# Altium footprint library Inductor_SMD.PcbLib: 587 footprints (part 19 of 37)
Each footprint in its own frame and in the unit in brackets; x right, y up, seen from the top. Pads: shape width x height; smd on the part's side, far side on the other; paste and mask are expansions set on the pad; w line width, h text height; cw(c..) or ccw(c..) is an arc to the next point about the centre after c.
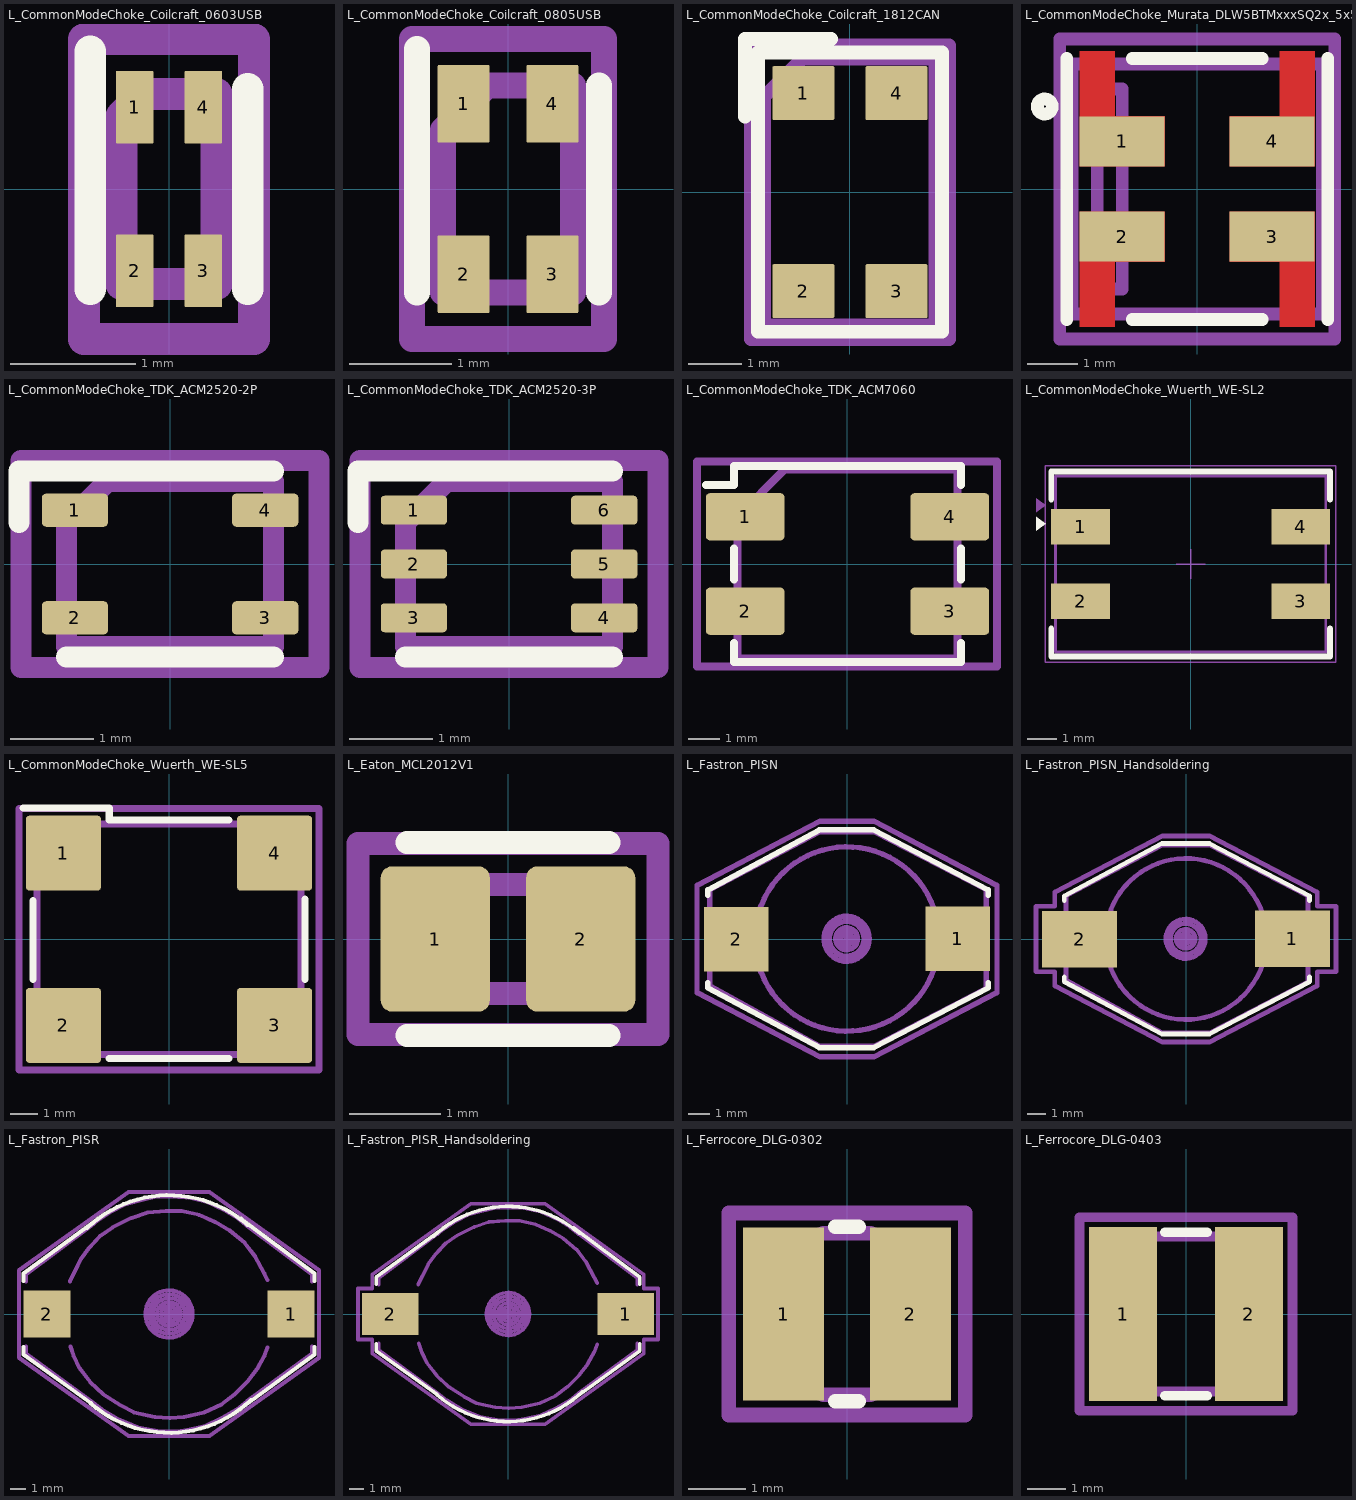
[diagram p18: the footprints below, top view; thin cyan lines are the x and y axes]

## L_CommonModeChoke_Coilcraft_0603USB [mm] "L_CommonModeChoke_Coilcraft_0603USB"
pads (4):
  rrect5% 0.3x0.58 smd: 1(-0.275,0.655) 2(-0.275,-0.655) 3(0.275,-0.655) 4(0.275,0.655)
F.SilkS:
  lines w0.254: -0.63,-0.8 -0.63,1.1 ; 0.63,-0.8 0.63,0.8
Top Assembly:
  lines w0.254: -0.38,-0.76 -0.38,0.58 -0.2,0.76 0.38,0.76 0.38,-0.76 -0.38,-0.76
  text "'.Designator'" at 0.42,-2.023 h0.5
Top Courtyard:
  lines w0.254: -0.68,-1.2 -0.68,1.2 0.68,1.2 0.68,-1.2 -0.68,-1.2
Top Designator:
  text ".Designator" at -7.618,-0.583 h1.52

## L_CommonModeChoke_Coilcraft_0805USB [mm] "L_CommonModeChoke_Coilcraft_0805USB"
pads (4):
  rrect5% 0.51x0.76 smd: 1(-0.435,0.835) 2(-0.435,-0.835) 3(0.435,-0.835) 4(0.435,0.835)
F.SilkS:
  lines w0.254: -0.89,-1.015 -0.89,1.37 ; 0.89,-1.015 0.89,1.015
Top Assembly:
  lines w0.254: -0.635,-1.015 -0.635,0.58 -0.205,1.015 0.635,1.015 0.635,-1.015 -0.635,-1.015
  text "'.Designator'" at 0.42,-2.023 h0.5
Top Courtyard:
  lines w0.254: -0.94,-1.47 -0.94,1.47 0.94,1.47 0.94,-1.47 -0.94,-1.47
Top Designator:
  text ".Designator" at -7.618,-0.583 h1.52

## L_CommonModeChoke_Coilcraft_1812CAN [mm] "L_CommonModeChoke_Coilcraft_1812CAN"
pads (4):
  rrect5% 1.15x1 smd: 1(-0.865,1.84) 2(-0.865,-1.84) 3(0.865,-1.84) 4(0.865,1.84)
F.SilkS:
  lines w0.254: -1.95,1.4 -1.95,2.845 -0.35,2.845 ; -1.71,-2.595 1.71,-2.595 1.71,2.595 -1.71,2.595 -1.71,-2.595
Top Assembly:
  lines w0.254: -1.59,-2.475 1.59,-2.475 1.59,2.475 -0.89,2.475 -1.59,1.78 -1.59,-2.475
  text "'.Designator'" at 0.84,-4.047 h1
Top Courtyard:
  lines w0.254: -1.84,-2.73 1.84,-2.73 1.84,2.73 -1.84,2.73 -1.84,-2.73
Top Designator:
  text ".Designator" at -7.673,-0.658 h1.52

## L_CommonModeChoke_Murata_DLW5BTMxxxSQ2x_5x5mm [mm] "L_CommonModeChoke_Murata_DLW5BTMxxxSQ2x_5x5mm"
pads (4):
  rect 1.7x1 smd: 1(-1.5,0.95) 2(-1.5,-0.95) 3(1.5,-0.95) 4(1.5,0.95)
F.Cu:
  region: -1.65,1.45 -0.65,1.45 -0.65,0.45 -2.35,0.45 -2.35,2.75 -1.65,2.75
  region: -0.65,-1.45 -1.65,-1.45 -1.65,-2.75 -2.35,-2.75 -2.35,-0.45 -0.65,-0.45
  region: 2.35,-2.75 1.65,-2.75 1.65,-1.45 0.65,-1.45 0.65,-0.45 2.35,-0.45
  region: 2.35,0.45 0.65,0.45 0.65,1.45 1.65,1.45 1.65,2.75 2.35,2.75
F.SilkS:
  circle w0.254: c-3.05,1.65 r0.15
  lines w0.254: -2.61,-2.61 -2.61,2.61 ; -1.3,-2.61 1.3,-2.61 ; -1.3,2.61 1.3,2.61 ; 2.61,-2.61 2.61,2.61
F.Paste:
  region: -1.65,1.45 -0.65,1.45 -0.65,0.45 -2.35,0.45 -2.35,2.75 -1.65,2.75
  region: -0.65,-1.45 -1.65,-1.45 -1.65,-2.75 -2.35,-2.75 -2.35,-0.45 -0.65,-0.45
  region: 2.35,-2.75 1.65,-2.75 1.65,-1.45 0.65,-1.45 0.65,-0.45 2.35,-0.45
  region: 2.35,0.45 0.65,0.45 0.65,1.45 1.65,1.45 1.65,2.75 2.35,2.75
F.Mask:
  region: -1.65,1.45 -0.65,1.45 -0.65,0.45 -2.35,0.45 -2.35,2.75 -1.65,2.75
  region: -0.65,-1.45 -1.65,-1.45 -1.65,-2.75 -2.35,-2.75 -2.35,-0.45 -0.65,-0.45
  region: 2.35,-2.75 1.65,-2.75 1.65,-1.45 0.65,-1.45 0.65,-0.45 2.35,-0.45
  region: 2.35,0.45 0.65,0.45 0.65,1.45 1.65,1.45 1.65,2.75 2.35,2.75
Top Assembly:
  lines w0.254: -2.5,-2.5 -2.5,2.5 2.5,2.5 2.5,-2.5 -2.5,-2.5 ; -2,-2 -2,2 -1.5,2 -1.5,-2 -2,-2
  text "'.Designator'" at 0.84,-4.047 h1
Top Courtyard:
  lines w0.254: -2.75,-3 -2.75,3 2.75,3 2.75,-3 -2.75,-3
Top Designator:
  text ".Designator" at -7.843,-0.658 h1.52

## L_CommonModeChoke_TDK_ACM2520-2P [mm] "L_CommonModeChoke_TDK_ACM2520-2P"
pads (4):
  rrect25% 0.8x0.4 smd: 1(-1.15,0.65) 2(-1.15,-0.65) 3(1.15,-0.65) 4(1.15,0.65)
F.SilkS:
  lines w0.254: -1.825,0.5 -1.825,1.125 1.25,1.125 ; -1.25,-1.125 1.25,-1.125
Top Assembly:
  lines w0.254: -1.25,-1 1.25,-1 1.25,1 -0.75,1 -1.25,0.5 -1.25,0 -1.25,-1
  text "'.Designator'" at -2.023,-0.42 h0.5
Top Courtyard:
  lines w0.254: -1.8,-1.25 1.8,-1.25 1.8,1.25 -1.8,1.25 -1.8,-1.25
Top Designator:
  text ".Designator" at -7.693,-0.508 h1.52

## L_CommonModeChoke_TDK_ACM2520-3P [mm] "L_CommonModeChoke_TDK_ACM2520-3P"
pads (6):
  rrect25% 0.8x0.35 smd: 1(-1.15,0.65) 2(-1.15,0) 3(-1.15,-0.65) 4(1.15,-0.65) 5(1.15,0) 6(1.15,0.65)
F.SilkS:
  lines w0.254: -1.825,0.5 -1.825,1.125 1.25,1.125 ; -1.25,-1.125 1.25,-1.125
Top Assembly:
  lines w0.254: -1.25,-1 1.25,-1 1.25,1 -0.75,1 -1.25,0.5 -1.25,-1
  text "'.Designator'" at -2.023,-0.42 h0.5
Top Courtyard:
  lines w0.254: -1.8,-1.25 1.8,-1.25 1.8,1.25 -1.8,1.25 -1.8,-1.25
Top Designator:
  text ".Designator" at -7.693,-0.508 h1.52

## L_CommonModeChoke_TDK_ACM7060 [mm] "L_CommonModeChoke_TDK_ACM7060"
pads (4):
  rrect17% 2.5x1.5 smd: 1(-3.25,1.5) 2(-3.25,-1.5) 3(3.25,-1.5) 4(3.25,1.5)
F.SilkS:
  lines w0.254: -4.5,2.51 -3.61,2.51 -3.61,3.11 3.61,3.11 3.61,2.51 ; -3.61,-2.51 -3.61,-3.11 3.61,-3.11 3.61,-2.51 ; -3.61,-0.49 -3.61,0.49 ; 3.61,-0.49 3.61,0.49
Top Assembly:
  lines w0.254: -3.5,-3 -3.5,1.5 -2,3 3.5,3 3.5,-3 -3.5,-3
  text "'.Designator'" at -4.047,-0.84 h1
Top Courtyard:
  lines w0.254: -4.78,-3.25 -4.78,3.25 4.75,3.25 4.75,-3.25 -4.78,-3.25
Top Designator:
  text ".Designator" at -7.633,-0.508 h1.52

## L_CommonModeChoke_Wuerth_WE-SL2 [mm] "WE-SL2_L9.2W6H5 SMD Inductor, 4-Leads, Body 9.2x6mm"
height 5
pads (4):
  rect 2x1.2 smd: 1(-3.75,1.27) 2(-3.75,-1.27) 3(3.75,-1.27) 4(3.75,1.27)
F.SilkS:
  region: -4.939,1.367 -5.269,1.127 -5.269,1.607
  lines w0.2: -4.75,-2.2 -4.75,-3.15 4.75,-3.15 4.75,-2.2 ; -4.75,2.2 -4.75,3.15 4.75,3.15 4.75,2.2
Top Assembly:
  region: -4.939,2.002 -5.269,1.762 -5.269,2.242
  lines w0.1: -4.6,-3 -4.6,3 4.6,3 4.6,-3 -4.6,-3
Top Courtyard:
  lines w0.05: -0.5,0 0.5,0 ; 0,-0.5 0,0.5 ; -4.95,-3.35 4.95,-3.35 4.95,3.35 -4.95,3.35 -4.95,-3.35
Top Designator:
  text ".Designator" at -3.379,-0.34 h1.5
Top 3D Body:
  lines w0.1: -4.6,-3 4.6,-3 4.6,3 -4.6,3 -4.6,-3
3D body "74422x.stp": height 5, standoff 0, extent -4.6,-3 4.6,3

## L_CommonModeChoke_Wuerth_WE-SL5 [mm] "L_CommonModeChoke_Wuerth_WE-SL5"
pads (4):
  rrect9% 2.7x2.7 smd: 1(-3.8,3.1) 2(-3.8,-3.1) 3(3.8,-3.1) 4(3.8,3.1)
F.SilkS:
  lines w0.254: -5.25,4.72 -2.15,4.72 -2.15,4.3 2.15,4.3 ; -4.9,-1.45 -4.9,1.4 ; -2.15,-4.3 2.15,-4.3 ; 4.9,-1.45 4.9,1.45
Top Assembly:
  lines w0.254: -4.75,-4.15 4.75,-4.15 4.75,4.15 -3.75,4.15 -4.75,3.15 -4.75,-4.15
  text "'.Designator'" at -4.047,-0.84 h1
Top Courtyard:
  lines w0.254: -5.4,-4.7 5.4,-4.7 5.4,4.7 -5.4,4.7 -5.4,-4.7
Top Designator:
  text ".Designator" at -7.618,-0.498 h1.52

## L_Eaton_MCL2012V1 [mm] "L_Eaton_MCL2012V1"
pads (2):
  rrect21% 1.2x1.6 smd: 1(-0.8,0) 2(0.8,0)
F.SilkS:
  lines w0.254: -1.11,-1.06 1.11,-1.06 ; -1.11,1.06 1.11,1.06
Top Assembly:
  lines w0.254: -1,-0.6 1,-0.6 1,0.6 -1,0.6 -1,-0.6
  text "'.Designator'" at -2.028,-0.425 h0.5
Top Courtyard:
  lines w0.254: -1.65,-1.05 1.65,-1.05 1.65,1.05 -1.65,1.05 -1.65,-1.05
Top Designator:
  text ".Designator" at -7.698,-0.508 h1.52

## L_Fastron_PISN [mm] "L_Fastron_PISN"
pads (2):
  rect 3x3 smd: 1(5.17,0.01) 2(-5.17,-0.01)
F.SilkS:
  lines w0.254: -6.49,-2.03 -6.49,-2.28 -1.29,-5.07 1.25,-5.07 6.59,-2.28 6.59,-2.03 ; -6.49,2.04 -6.49,2.29 -1.29,5.09 1.25,5.09 6.59,2.29 6.59,2.04
Top Assembly:
  circle w0.254: c0,0 r4.3
  lines w0.254: 6.5,2 6.5,2.3 1.3,5 -1.3,5 -6.4,2.3 -6.4,2 -6.4,-2.2 -1.3,-5 1.3,-5 6.5,-2.3 6.5,2.2
  text "'.Designator'" at -3.997,-0.84 h1
Top Courtyard:
  lines w0.254: -7,-2.5 -1.25,-5.5 1.25,-5.5 7,-2.5 7,-2.25 7,2.5 1.25,5.5 -1.25,5.5 -7,2.5 -7,-2.5
Top Designator:
  text ".Designator" at -7.618,-0.508 h1.52
Top Glue Points:
  circle w0.254: c-0.02,0.01 r1.053
  circle w0.254: c-0.02,0.01 r0.813
  circle w0.254: c-0.02,0.01 r0.26
  circle w0.254: c-0.02,0.01 r0.51
  lines w0.254: -0.02,-0.25 -0.02,0.26

## L_Fastron_PISN_Handsoldering [mm] "L_Fastron_PISN_Handsoldering"
pads (2):
  rect 4x3 smd: 1(5.67,0.01) 2(-5.67,-0.01)
F.SilkS:
  lines w0.254: -6.49,-2.03 -6.49,-2.28 -1.29,-5.07 1.25,-5.07 6.59,-2.28 6.59,-2.03 ; -6.49,2.04 -6.49,2.29 -1.29,5.09 1.25,5.09 6.59,2.29 6.59,2.04
Top Assembly:
  circle w0.254: c0,0 r4.3
  lines w0.254: 6.5,2 6.5,2.3 1.3,5 -1.3,5 -6.4,2.3 -6.4,2 -6.4,-2.2 -1.3,-5 1.3,-5 6.5,-2.3 6.5,2.2
  text "'.Designator'" at -3.997,-0.84 h1
Top Courtyard:
  lines w0.254: -8,-1.75 -8,1.75 -7,1.75 -7,2.5 -1.25,5.5 1.25,5.5 7,2.5 7,1.75 8,1.75 8,-1.75 7,-1.75 7,-2.25 7,-2.5 1.25,-5.5 -1.25,-5.5 -7,-2.5 -7,-1.75 -8,-1.75
Top Designator:
  text ".Designator" at -7.618,-0.508 h1.52
Top Glue Points:
  circle w0.254: c-0.02,0.01 r0.51
  circle w0.254: c-0.02,0.01 r0.26
  circle w0.254: c-0.02,0.01 r0.813
  circle w0.254: c-0.02,0.01 r1.053
  lines w0.254: -0.02,-0.25 -0.02,0.26

## L_Fastron_PISR [mm] "L_Fastron_PISR"
pads (2):
  rect 3x3 smd: 1(7.82,0) 2(-7.82,0)
F.SilkS:
  lines w0.254: -9.3,-2.1 -9.3,-2.6 -5,-5.7 ; -9.3,2.1 -9.3,2.6 -4.4,6.2 ; -5.25,5.5 cw(c0,0) 5.022,5.709 ; -5.022,-5.709 ccw(c0,0) 5.25,-5.5 ; 4.1,-6.4 9.3,-2.6 9.3,-2.1 ; 4.6,6.1 9.3,2.6 9.3,2.1
Top Assembly:
  lines w0.254: -9.14,-2.08 -9.14,-2.54 -4.98,-5.59 -4.32,-6.1 -3.3,-6.71 -1.98,-7.26 -0.56,-7.52 0.51,-7.52 1.17,-7.42 2.34,-7.16 3.4,-6.65 4.37,-6.1 5.13,-5.49 ; -9.14,2.08 -9.14,2.54 -4.98,5.64 -4.57,5.99 -3.71,6.55 -2.84,7.01 -1.88,7.26 -0.81,7.52 0,7.52 1.12,7.47 2.34,7.21 3.56,6.65 4.37,6.15 4.93,5.69 ; -6.35,2.08 -6.05,2.69 -5.64,3.51 -5.13,4.22 -4.42,4.98 -3.61,5.54 -2.39,6.15 -1.37,6.5 -0.2,6.6 0.81,6.6 1.93,6.35 2.95,5.89 3.91,5.33 4.83,4.57 5.49,3.71 6.1,2.59 6.3,2.18 ; -6.3,-2.08 -6.1,-2.69 -5.74,-3.45 -5.03,-4.37 -4.22,-5.13 -3.1,-5.84 -2.24,-6.3 -0.91,-6.6 0.05,-6.65 0.97,-6.6 2.24,-6.3 3.35,-5.79 4.22,-5.13 5.03,-4.32 5.64,-3.51 6.1,-2.69 6.3,-2.13 ; 4.98,-5.59 9.14,-2.54 9.14,-2.08 ; 4.98,5.64 9.14,2.54 9.14,2.08
  text "'.Designator'" at -4.047,-0.84 h1
Top Courtyard:
  lines w0.254: -9.6,-2.8 -2.6,-7.8 2.6,-7.8 9.6,-2.8 9.6,2.8 2.6,7.8 -2.6,7.8 -9.6,2.8 -9.6,-2.8
Top Designator:
  text ".Designator" at -7.618,-0.508 h1.52
Top Glue Points:
  circle w0.254: c0,0 r1.52
  circle w0.254: c0,0 r1.27
  circle w0.254: c0,0 r1.02
  circle w0.254: c0,0 r0.76
  circle w0.254: c0,0 r0.51
  circle w0.254: c0,0 r0.25
  lines w0.254: 0,-0.25 0,0.25

## L_Fastron_PISR_Handsoldering [mm] "L_Fastron_PISR_Handsoldering"
pads (2):
  rect 4x3 smd: 1(8.33,0) 2(-8.33,0)
F.SilkS:
  lines w0.254: -9.3,-2.1 -9.3,-2.6 -5,-5.7 ; -9.3,2.1 -9.3,2.6 -4.4,6.2 ; -5.25,5.5 cw(c0,0) 5.022,5.709 ; -5.022,-5.709 ccw(c0,0) 5.25,-5.5 ; 4.1,-6.4 9.3,-2.6 9.3,-2.1 ; 4.6,6.1 9.3,2.6 9.3,2.1
Top Assembly:
  lines w0.254: -9.14,-2.08 -9.14,-2.54 -4.98,-5.59 -4.32,-6.1 -3.3,-6.71 -1.98,-7.26 -0.56,-7.52 0.51,-7.52 1.17,-7.42 2.34,-7.16 3.4,-6.65 4.37,-6.1 5.13,-5.49 ; -9.14,2.08 -9.14,2.54 -4.98,5.64 -4.57,5.99 -3.71,6.55 -2.84,7.01 -1.88,7.26 -0.81,7.52 0,7.52 1.12,7.47 2.34,7.21 3.56,6.65 4.37,6.15 4.93,5.69 ; -6.35,2.08 -6.05,2.69 -5.64,3.51 -5.13,4.22 -4.42,4.98 -3.61,5.54 -2.39,6.15 -1.37,6.5 -0.2,6.6 0.81,6.6 1.93,6.35 2.95,5.89 3.91,5.33 4.83,4.57 5.49,3.71 6.1,2.59 6.3,2.18 ; -6.3,-2.08 -6.1,-2.69 -5.74,-3.45 -5.03,-4.37 -4.22,-5.13 -3.1,-5.84 -2.24,-6.3 -0.91,-6.6 0.05,-6.65 0.97,-6.6 2.24,-6.3 3.35,-5.79 4.22,-5.13 5.03,-4.32 5.64,-3.51 6.1,-2.69 6.3,-2.13 ; 4.98,-5.59 9.14,-2.54 9.14,-2.08 ; 4.98,5.64 9.14,2.54 9.14,2.08
  text "'.Designator'" at -4.047,-0.84 h1
Top Courtyard:
  lines w0.254: -10.6,-1.8 -9.6,-1.8 -9.6,-2.8 -2.6,-7.8 2.6,-7.8 9.6,-2.8 9.6,-1.8 10.6,-1.8 10.6,1.8 9.6,1.8 9.6,2.8 2.6,7.8 -2.6,7.8 -9.6,2.8 -9.6,1.8 -10.6,1.8 -10.6,-1.8
Top Designator:
  text ".Designator" at -7.618,-0.508 h1.52
Top Glue Points:
  circle w0.254: c0,0 r1.52
  circle w0.254: c0,0 r1.27
  circle w0.254: c0,0 r1.02
  circle w0.254: c0,0 r0.76
  circle w0.254: c0,0 r0.51
  circle w0.254: c0,0 r0.25
  lines w0.254: 0,-0.25 0,0.25

## L_Ferrocore_DLG-0302 [mm] "L_Ferrocore_DLG-0302"
pads (2):
  rect 1.4x3 smd: 1(-1.1,0) 2(1.1,0)
F.SilkS:
  lines w0.254: -0.2,-1.51 0.2,-1.51 ; -0.2,1.51 0.2,1.51
Top Assembly:
  lines w0.254: -0.4,-1.4 cw(c-0.059,0) -0.4,1.4 0.4,1.4 cw(c0.059,0) 0.4,-1.4 -0.4,-1.4
  text "'.Designator'" at -3.647,-0.761 h0.9
Top Courtyard:
  lines w0.254: -2.05,-1.75 2.05,-1.75 2.05,1.75 -2.05,1.75 -2.05,-1.75
Top Designator:
  text ".Designator" at -7.758,-0.508 h1.52

## L_Ferrocore_DLG-0403 [mm] "L_Ferrocore_DLG-0403"
pads (2):
  rect 1.75x4.5 smd: 1(-1.625,0) 2(1.625,0)
F.SilkS:
  lines w0.254: -0.55,-2.11 0.55,-2.11 ; -0.55,2.11 0.55,2.11
Top Assembly:
  lines w0.254: -0.75,-2 cw(c-0.167,0) -0.75,2 0.75,2 cw(c0.167,0) 0.75,-2 -0.75,-2
  text "'.Designator'" at -4.047,-0.84 h1
Top Courtyard:
  lines w0.254: -2.75,-2.5 2.75,-2.5 2.75,2.5 -2.75,2.5 -2.75,-2.5
Top Designator:
  text ".Designator" at -7.768,-0.508 h1.52